# EAGLE library part CON_MDR26R (library akita)
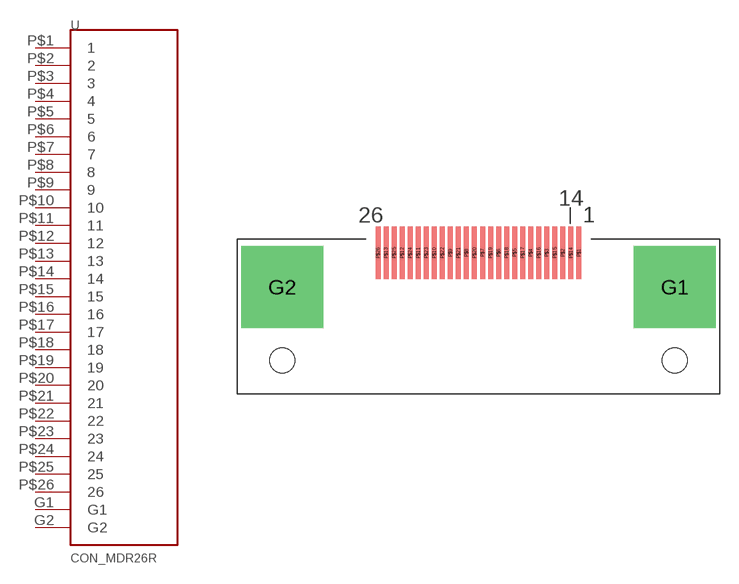
[diagram p118: symbol with the pads of CON_MDR26R; footprint CON_MDR26R]

Designator prefix -

## CON_MDR26R  [CON_MDR26R]
G1  G1
G2  G2
P$1  1
P$2  2
P$3  3
P$4  4
P$5  5
P$6  6
P$7  7
P$8  8
P$9  9
P$10  10
P$11  11
P$12  12
P$13  13
P$14  14
P$15  15
P$16  16
P$17  17
P$18  18
P$19  19
P$20  20
P$21  21
P$22  22
P$23  23
P$24  24
P$25  25
P$26  26

## Footprint CON_MDR26R (pad centres in mm)
MDR26 recpt, 3M's 10226-1A10PE
drill 2.8 pad 6.5 square: G1 15.63,0; G2 -15.63,0
smd 0.4 x 4.2: P$1 8,2.74; P$2 6.72,2.74; P$3 5.44,2.74; P$4 4.16,2.74; P$5 2.88,2.74; P$6 1.6,2.74; P$7 0.32,2.74; P$8 -0.96,2.74; P$9 -2.24,2.74; P$10 -3.52,2.74; P$11 -4.8,2.74; P$12 -6.08,2.74; P$13 -7.36,2.74; P$14 7.36,2.74; P$15 6.08,2.74; P$16 4.8,2.74; P$17 3.52,2.74; P$18 2.24,2.74; P$19 0.96,2.74; P$20 -0.32,2.74; P$21 -1.6,2.74; P$22 -2.88,2.74; P$23 -4.16,2.74; P$24 -5.44,2.74; P$25 -6.72,2.74; P$26 -8,2.74
hole 2 at 15.63,-5.84
hole 2 at -15.63,-5.84